# Altium integrated library Microchip SST Flash.IntLib: 291 symbols (part 38 of 38)
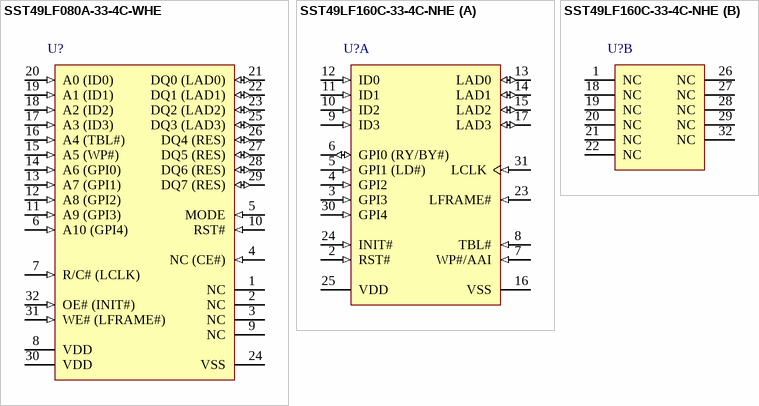
[diagram p52: symbols SST49LF080A-33-4C-WHE to SST49LF160C-33-4C-NHE]

## SST49LF160C-33-4C-NHE
designator U?
16 Mbit LPC Flash, 3 to 3.6 V, 33 MHz, 0 to 70 degC, 32-pin PLCC (NH32), Tube; Manufacturer: Microchip; PartNumber: SST49LF160C-33-4C-NHE; DatasheetVersion: Rev. A; PackageVersion: Rev. A; PackageReference: PLCC-NH32; PackageDescription: 32-lead Plastic Lead Chip Carrier, 11.43 x 13.97 mm Body, 1.27 mm Pitch; Supplier 1: Digi-Key; Supplier Part Number 1: SST49LF160C-33-4C-NHE-ND; Supplier 2: Newark; Supplier Part Number 2: 92R4962; Supplier 3: Mouser; Supplier Part Number 3: 804-49LF160C3CNHE; Mounting Technology: Surface Mount; Code_JEDEC: MS-016; ComponentLink1Description: Manufacturer URL; ComponentLink1URL: http://www.microchip.com; ComponentLink2Description: Datasheet; ComponentLink2URL: http://ww1.microchip.com/downloads/en/DeviceDoc/25099A.pdf; ComponentLink3Description: Package Specification; ComponentLink3URL: http://ww1.microchip.com/downloads/en/DeviceDoc/25022A.pdf; ComponentLink4Description: Product URL; ComponentLink4URL: http://www.microchip.com/SST49LF160C
footprint MCHP-PLCC-NH32_N (PLCC, 32-Leads, Body 13.97x11.43mm, Pitch 1.27mm, IPC Medium Density)
footprint MCHP-PLCC-NH32_L (PLCC, 32-Leads, Body 13.97x11.43mm, Pitch 1.27mm, IPC High Density)
footprint MCHP-PLCC-NH32_M (PLCC, 32-Leads, Body 13.97x11.43mm, Pitch 1.27mm, IPC Low Density)
part A pins: 2 RST# (in) "To reset the operation of the device", 3 GPI3 (in) "These individual inputs can be used for additional board flexibility. The state of these pins can be read through LPC registers. These inputs should be at their desired state before the start of the LPC clock cycle during (See Datasheet)", 4 GPI2 (in) "These individual inputs can be used for additional board flexibility. The state of these pins can be read through LPC registers. These inputs should be at their desired state before the start of the LPC clock cycle during (See Datasheet)", 5 GPI1 (LD#) (in), 6 GPI0 (RY/BY#) (io), 7 WP#/AAI (in), 8 TBL# (in) "When low, prevents programming to the boot block sectors at top of device memory. When TBL# is high it disables hardware write protection for the top block sectors. This pin cannot be left unconnected. TBL# setting is (See Datasheet)", 9 ID3 (in) "These four pins are part of the mechanism that allows multiple parts to be attached to the same bus. The strapping of these pins is used to identify the component. The boot device must have ID[3:0]=0000, all subsequent (See Datasheet)", 10 ID2 (in) "These four pins are part of the mechanism that allows multiple parts to be attached to the same bus. The strapping of these pins is used to identify the component. The boot device must have ID[3:0]=0000, all subsequent (See Datasheet)", 11 ID1 (in) "These four pins are part of the mechanism that allows multiple parts to be attached to the same bus. The strapping of these pins is used to identify the component. The boot device must have ID[3:0]=0000, all subsequent (See Datasheet)", 12 ID0 (in) "These four pins are part of the mechanism that allows multiple parts to be attached to the same bus. The strapping of these pins is used to identify the component. The boot device must have ID[3:0]=0000, all subsequent (See Datasheet)", 13 LAD0 (io) "To provide LPC bus information, such as addresses and command Inputs/Outputs data.", 14 LAD1 (io) "To provide LPC bus information, such as addresses and command Inputs/Outputs data.", 15 LAD2 (io) "To provide LPC bus information, such as addresses and command Inputs/Outputs data.", 16 VSS (power) "Circuit ground (0V reference)", 17 LAD3 (io) "To provide LPC bus information, such as addresses and command Inputs/Outputs data.", 23 LFRAME# (in) "To indicate the start of a data transfer operation; also used to abort an LPC cycle in progress.", 24 INIT# (in) "This is the second reset pin for in-system use. This pin is internally combined with the RST# pin. If this pin or RST# pin is driven low, identical operation is exhibited.", 25 VDD (power) "To provide power supply (3.0-3.6V)", 30 GPI4 (in) "These individual inputs can be used for additional board flexibility. The state of these pins can be read through LPC registers. These inputs should be at their desired state before the start of the LPC clock cycle during (See Datasheet)", 31 LCLK (in) "To accept a clock input from the control unit"
part B pins: 1 NC "Unconnected pins.", 18 NC "Unconnected pins.", 19 NC "Unconnected pins.", 20 NC "Unconnected pins.", 21 NC "Unconnected pins.", 22 NC "Unconnected pins.", 26 NC "Unconnected pins.", 27 NC "Unconnected pins.", 28 NC "Unconnected pins.", 29 NC "Unconnected pins.", 32 NC "Unconnected pins."